# EAGLE library part HV264TS-G (library Micromirror_Ampli_PCB)
Op Amps Quad High Voltage Amplifier Array IC, HV264TS-G, Case TSSOP-24, Mouser : 689-HV264TS-G
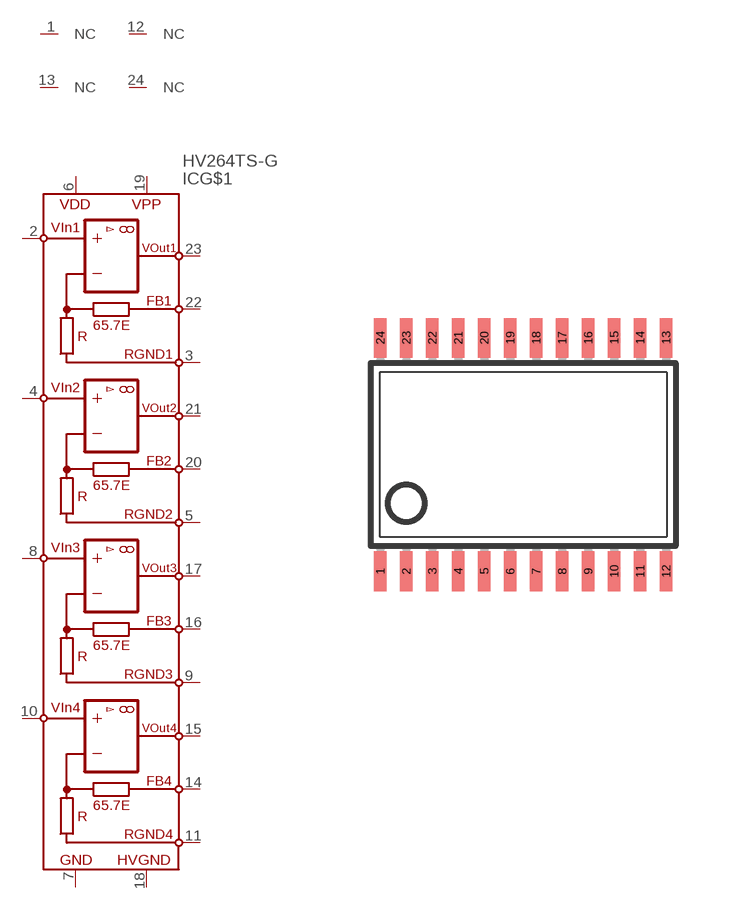
[diagram p0: symbol with the pads of TSSOP24; footprint TSSOP24]

Designator prefix IC; gates G$1=HV264 NC1=NC NC2=NC NC3=NC NC4=NC

## HV264TS-G (CASE: TSSOP-24; INPUT_BIAS_CURRENT_MAX: 50 nA; MANUFACTURER: Supertex; MAX_MIN_OPERATING-TEMP: -40C to +85C; MOUSER: 689-HV264TS-G; NUMBER_OF_CHANNEL: 4; OPERATING_SUPPLY_VOLTAGE: 5V; SLEW_RATE: 9 V/us)  [TSSOP24]
1  NC1:NC  nc
2  G$1:+VIN1  in
3  G$1:RGND1
4  G$1:+VIN2  in
5  G$1:RGND2
6  G$1:VDD  pwr
7  G$1:GND  pwr
8  G$1:+VIN3  in
9  G$1:RGND3
10  G$1:+VIN4  in
11  G$1:RGND4
12  NC2:NC  nc
13  NC3:NC  nc
14  G$1:FB4
15  G$1:VOUT4  out
16  G$1:FB3
17  G$1:VOUT3  out
18  G$1:HVGND  pas
19  G$1:VPP  pwr
20  G$1:FB2
21  G$1:VOUT2  out
22  G$1:FB1
23  G$1:VOUT1  out
24  NC4:NC  nc

## Footprint TSSOP24 (pad centres in mm)
Thin Shrink Small Outline Plastic 24
smd 0.305 x 0.991: 1 -3.575,-2.918; 2 -2.925,-2.918; 3 -2.275,-2.918; 4 -1.625,-2.918; 5 -0.975,-2.918; 6 -0.325,-2.918; 7 0.325,-2.918; 8 0.975,-2.918; 9 1.625,-2.918; 10 2.275,-2.918; 11 2.925,-2.918; 12 3.575,-2.918; 13 3.575,2.918; 14 2.925,2.918; 15 2.275,2.918; 16 1.625,2.918; 17 0.975,2.918; 18 0.325,2.918; 19 -0.325,2.918; 20 -0.975,2.918; 21 -1.625,2.918; 22 -2.275,2.918; 23 -2.925,2.918; 24 -3.575,2.918